# EAGLE library part SCREW-TERMINAL_7_0.100 (library headers)
7x 0.100 in screw terminal block
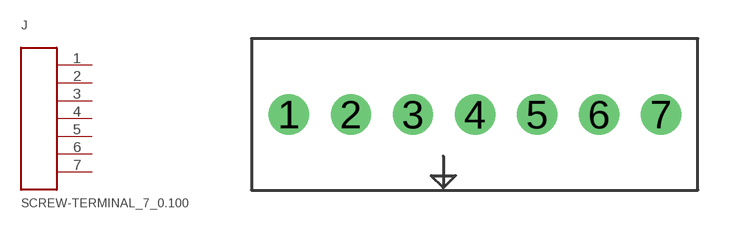
[diagram p4: symbol with the pads of CONN_BLOCK_7; footprint CONN_BLOCK_7]

Designator prefix J

## SCREW-TERMINAL_7_0.100 (DIGIKEY: 277-1278-ND; MOUSER: 651-1725708; NEWARK: 14X4980)  [CONN_BLOCK_7]
1  1
2  2
3  3
4  4
5  5
6  6
7  7

## Footprint CONN_BLOCK_7 (pad centres in mm)
drill 1.1: 1 -7.62,0; 2 -5.08,0; 3 -2.54,0; 4 0,0; 5 2.54,0; 6 5.08,0; 7 7.62,0